# Altium integrated library 电池.IntLib: 1 symbol
Pins are listed as number, name and electrical type; pins without a type are passive.

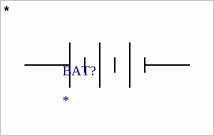
[diagram p0: symbol *]

## *
designator BAT?
footprint 7号电池座
pins: 0, 1